# Altium footprint library PCB - MICROPHONE - KNOWLES SPU0410LR5H-QB.PcbLib: 1 footprints
Each footprint in its own frame and in the unit in brackets; x right, y up, seen from the top. Pads: shape width x height; smd on the part's side, far side on the other; paste and mask are expansions set on the pad; w line width, h text height; cw(c..) or ccw(c..) is an arc to the next point about the centre after c.
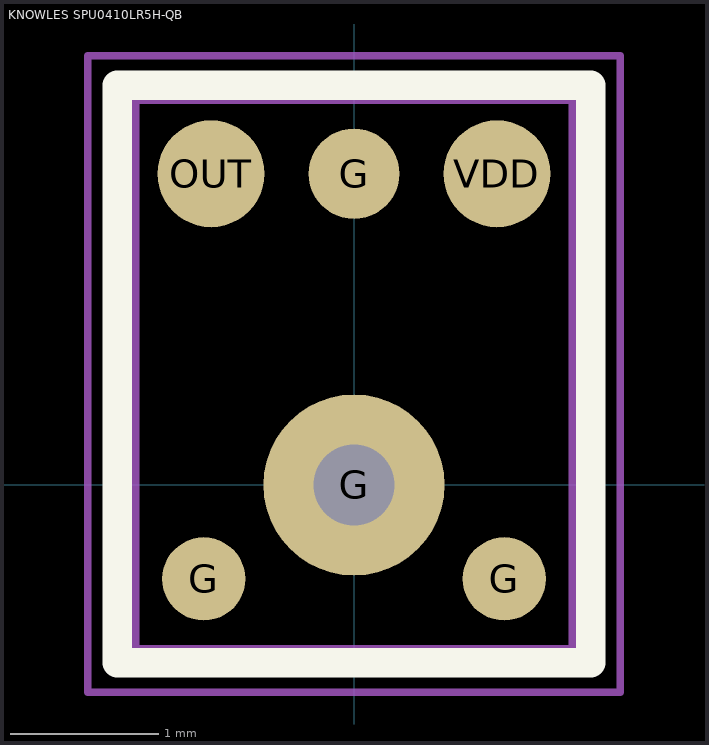
[diagram p0: the footprint, top view; thin cyan lines are the x and y axes]

## KNOWLES SPU0410LR5H-QB [mm] "SiSonicTM Microphone 3.76x3.00"
height 1.2
pads (6):
  round 0.562 smd: G(-1.015,-0.634) G(1.015,-0.634)
  round 1.224 hole 0.55 unplated mask+0.102: G(0,0)
  round 0.612 smd: G(0,2.103)
  round 0.723 smd: OUT(-0.966,2.103) VDD(0.966,2.103)
Top Overlay:
  lines w0.2: -1.6,-1.2 -1.6,2.7 1.6,2.7 1.6,-1.2 -1.6,-1.2
Top Paste:
  region: 0.075,0.6 0.126,0.597 0.224,0.572 0.315,0.529 0.396,0.468 0.43,0.43 0.468,0.396 0.528,0.315 0.572,0.224 0.597,0.126 0.6,0.075 0.35,0.075 0.347,0.101 0.333,0.152 0.31,0.199 0.278,0.241 0.259,0.259 0.241,0.278 0.199,0.31 0.152,0.333 0.101,0.347 0.075,0.35
  region: 0.6,-0.075 0.597,-0.126 0.572,-0.224 0.529,-0.315 0.468,-0.396 0.43,-0.43 0.396,-0.468 0.315,-0.528 0.224,-0.572 0.126,-0.597 0.075,-0.6 0.075,-0.35 0.101,-0.347 0.152,-0.333 0.199,-0.31 0.241,-0.278 0.259,-0.259 0.278,-0.241 0.31,-0.199 0.333,-0.152 0.347,-0.101 0.35,-0.075
  region: -0.6,0.075 -0.597,0.126 -0.572,0.224 -0.529,0.315 -0.468,0.396 -0.43,0.43 -0.396,0.468 -0.315,0.528 -0.224,0.572 -0.126,0.597 -0.075,0.6 -0.075,0.35 -0.101,0.347 -0.152,0.333 -0.199,0.31 -0.241,0.278 -0.259,0.259 -0.278,0.241 -0.31,0.199 -0.333,0.152 -0.347,0.101 -0.35,0.075
  region: -0.075,-0.6 -0.126,-0.597 -0.224,-0.572 -0.315,-0.529 -0.396,-0.468 -0.43,-0.43 -0.468,-0.396 -0.528,-0.315 -0.572,-0.224 -0.597,-0.126 -0.6,-0.075 -0.35,-0.075 -0.347,-0.101 -0.333,-0.152 -0.31,-0.199 -0.278,-0.241 -0.259,-0.259 -0.241,-0.278 -0.199,-0.31 -0.152,-0.333 -0.101,-0.347 -0.075,-0.35
Top Solder:
  region: 0,0.6 -0.119,0.6 -0.34,0.509 -0.509,0.34 -0.6,0.119 -0.6,0 -0.6,-0.119 -0.509,-0.34 -0.34,-0.509 -0.119,-0.6 0,-0.6 0,-0.325 -0.063,-0.319 -0.181,-0.27 -0.27,-0.181 -0.319,-0.063 -0.325,0 -0.319,0.063 -0.27,0.181 -0.181,0.27 -0.063,0.319 0,0.325
  region: 0,0.6 0.119,0.6 0.34,0.509 0.509,0.34 0.6,0.119 0.6,0 0.6,-0.119 0.509,-0.34 0.34,-0.509 0.119,-0.6 0,-0.6 0,-0.325 0.063,-0.319 0.181,-0.27 0.27,-0.181 0.319,-0.063 0.325,0 0.319,0.063 0.27,0.181 0.181,0.27 0.063,0.319 0,0.325
Mechanical 1:
  lines w0.1: -1.5,-1.13 -1.5,2.625 1.5,2.625 1.5,-1.13 -1.5,-1.13
Mechanical 15:
  lines w0.05: -0.5,0 0.5,0 ; 0,-0.5 0,0.5 ; -1.8,-1.4 -1.8,2.9 1.8,2.9 1.8,-1.4 -1.8,-1.4
3D body "Knowles SPU0410LR5H-QB-7.step": height 1.2, standoff 0, extent -1.5,-1.13 1.5,2.63